# Altium footprint library 691 325 310 0xx.PcbLib: 6 footprints
Each footprint in its own frame and in the unit in brackets; x right, y up, seen from the top. Pads: shape width x height; smd on the part's side, far side on the other; paste and mask are expansions set on the pad; w line width, h text height; cw(c..) or ccw(c..) is an arc to the next point about the centre after c.
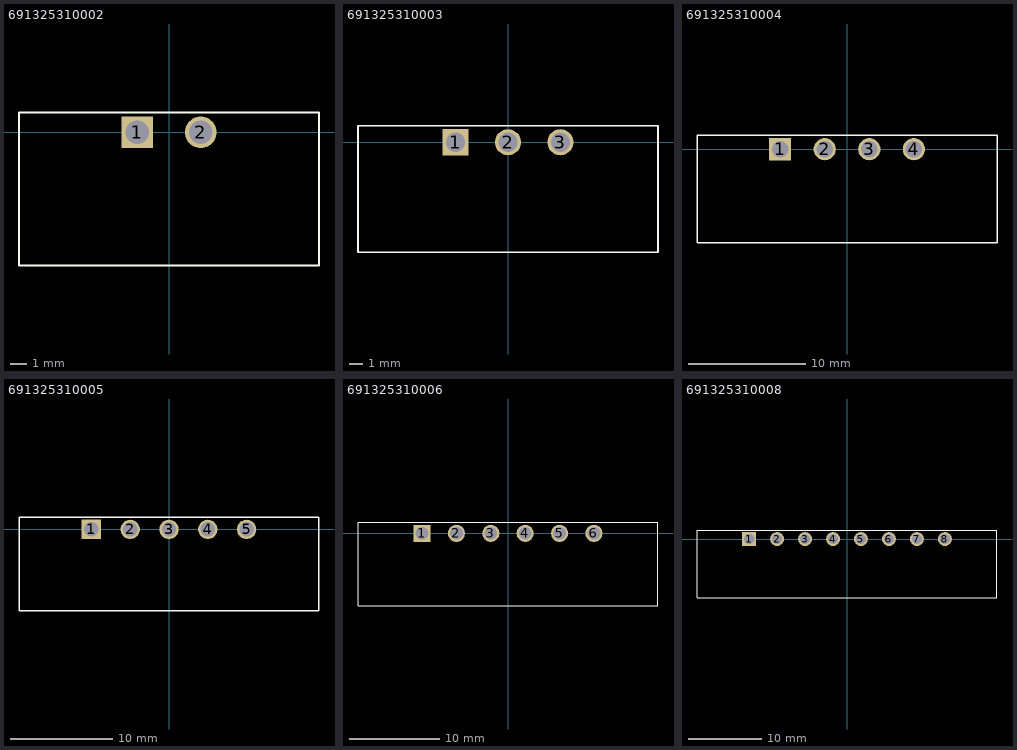
[diagram p0: the footprints below, top view; thin cyan lines are the x and y axes]

## 691325310002 [mm] "3,81mm - PCB  Horizontal With Flanges - 02p"
height 7
pads (2):
  rect 1.9x1.9 hole 1.4: 1(-1.905,0)
  round 1.9 hole 1.4: 2(1.905,0)
Top Overlay:
  lines w0.127: -9.005,-8 9.005,-8 9.005,1.2 -9.005,1.2 -9.005,-8
3D body: height 7.21, standoff -3.49, extent -9.005,-8 9.005,1.2

## 691325310003 [mm] "3,81mm - PCB  Horizontal With Flanges - 03p"
height 7
pads (3):
  rect 1.9x1.9 hole 1.4: 1(-3.81,0)
  round 1.9 hole 1.4: 2(0,0) 3(3.81,0)
Top Overlay:
  lines w0.127: -10.91,-8 10.91,-8 10.91,1.2 -10.91,1.2 -10.91,-8
3D body: height 7.21, standoff -3.49, extent -10.91,-8 10.91,1.2

## 691325310004 [mm] "3,81mm - PCB  Horizontal With Flanges - 04p"
height 7
pads (4):
  rect 1.9x1.9 hole 1.4: 1(-5.715,0)
  round 1.9 hole 1.4: 2(-1.905,0) 3(1.905,0) 4(5.715,0)
Top Overlay:
  lines w0.127: -12.815,-8 12.815,-8 12.815,1.2 -12.815,1.2 -12.815,-8
3D body: height 7.21, standoff -3.49, extent -12.815,-8 12.815,1.2

## 691325310005 [mm] "3,81mm - PCB  Horizontal With Flanges - 05p"
height 7
pads (5):
  rect 1.9x1.9 hole 1.4: 1(-7.62,0)
  round 1.9 hole 1.4: 2(-3.81,0) 3(0,0) 4(3.81,0) 5(7.62,0)
Top Overlay:
  lines w0.127: -14.72,-8 -14.72,1.2 14.72,1.2 14.72,-8 -14.72,-8
3D body: height 7.21, standoff -3.49, extent -14.72,-8 14.72,1.2

## 691325310006 [mm] "3,81mm - PCB  Horizontal With Flanges - 06p"
height 7
pads (6):
  rect 1.9x1.9 hole 1.4: 1(-9.525,0)
  round 1.9 hole 1.4: 2(-5.715,0) 3(-1.905,0) 4(1.905,0) 5(5.715,0) 6(9.525,0)
Top Overlay:
  lines w0.127: -16.625,-8 -16.625,1.2 16.625,1.2 16.625,-8 -16.625,-8
3D body: height 7.21, standoff -3.49, extent -16.625,-8 16.625,1.2

## 691325310008 [mm] "3,81mm - PCB  Horizontal With Flanges - 08p"
height 7
pads (8):
  rect 1.9x1.9 hole 1.4: 1(-13.335,0)
  round 1.9 hole 1.4: 2(-9.525,0) 3(-5.715,0) 4(-1.905,0) 5(1.905,0) 6(5.715,0) 7(9.525,0) 8(13.335,0)
Top Overlay:
  lines w0.127: -20.435,-8 20.435,-8 20.435,1.2 -20.435,1.2 -20.435,-8
3D body: height 7.21, standoff -3.49, extent -20.435,-8 20.435,1.2